# EAGLE library part MCP9843T (library MarkIIEaglelbr)
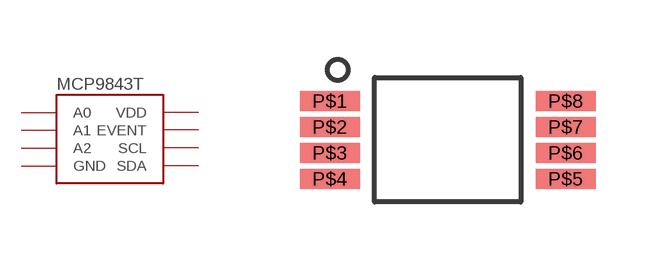
[diagram p0: symbol with the pads of TSSOP; footprint TSSOP]

Designator prefix IC

## MCP9843T  [TSSOP]
P$1  A0
P$2  A1
P$3  A2
P$4  GND
P$5  VDD
P$6  EVENT
P$7  SCL
P$8  SDA

## Footprint TSSOP (pad centres in mm)
smd 1.5 x 0.5: P$1 -2.95,0.975; P$2 -2.95,0.325; P$3 -2.95,-0.325; P$4 -2.95,-0.975; P$5 2.95,-0.975; P$6 2.95,-0.325; P$7 2.95,0.325; P$8 2.95,0.975